# EAGLE library part CON-MOLEX_22-23-2121 (library Batboard rev 2.2)
.100" (2.54mm) Center Header - 12 Pin
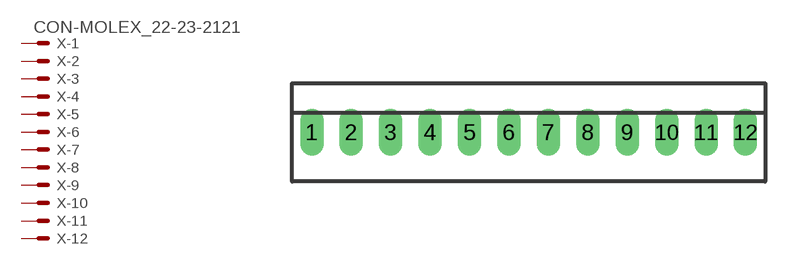
[diagram p4: symbol with the pads of CON-MOLEX_22-23-2121; footprint CON-MOLEX_22-23-2121]

Designator prefix X; gates -1=CON-MOLEX_MV -2=CON-MOLEX_M -3=CON-MOLEX_M -4=CON-MOLEX_M -5=CON-MOLEX_M -6=CON-MOLEX_M -7=CON-MOLEX_M -8=CON-MOLEX_M -9=CON-MOLEX_M -10=CON-MOLEX_M -11=CON-MOLEX_M -12=CON-MOLEX_M

## CON-MOLEX_22-23-2121 (MF: MOLEX; MPN: 22-23-2121; OC_FARNELL: 1462935; OC_NEWARK: 56H0456)  [CON-MOLEX_22-23-2121]
1  -1:S  pas
2  -2:S  pas
3  -3:S  pas
4  -4:S  pas
5  -5:S  pas
6  -6:S  pas
7  -7:S  pas
8  -8:S  pas
9  -9:S  pas
10  -10:S  pas
11  -11:S  pas
12  -12:S  pas

## Footprint CON-MOLEX_22-23-2121 (pad centres in mm)
.100" (2.54mm) Center Header - 12 Pin
drill 1 long: 1 -13.97,0; 2 -11.43,0; 3 -8.89,0; 4 -6.35,0; 5 -3.81,0; 6 -1.27,0; 7 1.27,0; 8 3.81,0; 9 6.35,0; 10 8.89,0; 11 11.43,0; 12 13.97,0